# EAGLE library part CS8406_SW (library cirrus)
DIGITAL AUDIO INTERFACE TRANSMITTER (Software Mode) 192 kHz, AES3, S/PDIF-compatible Transmitter
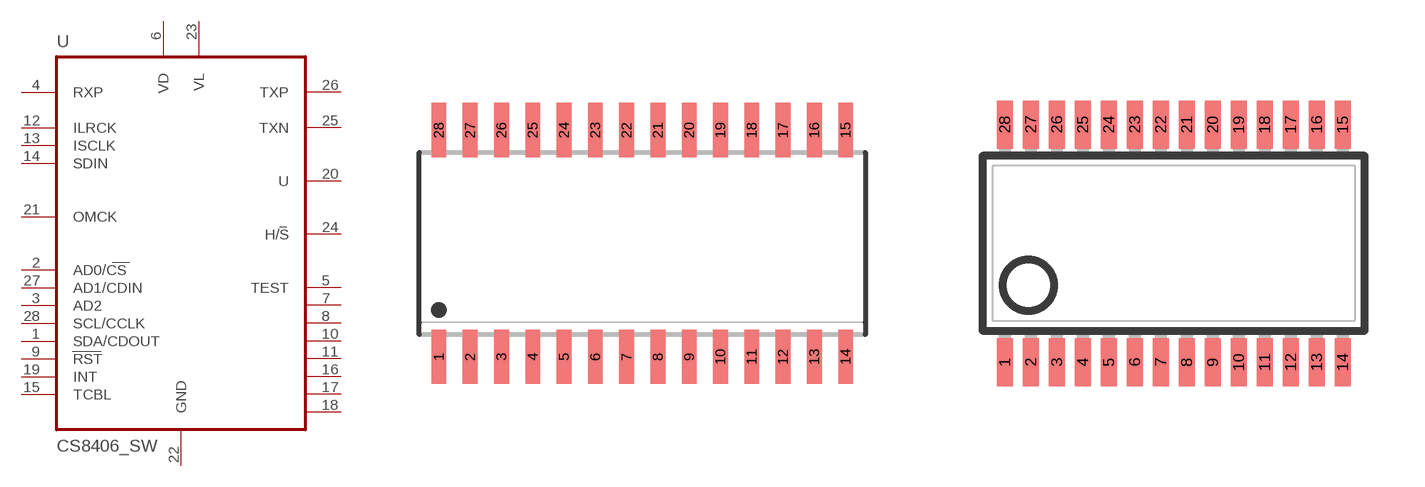
[diagram p1: symbol with the pads of SO28W; footprints SO28W, TSSOP28L]

Designator prefix U

## CS8406_SW-CSS  [SO28W]
1  SDA/CDOUT
2  AD0/CS  in
3  AD2  in
4  RXP  in
5  TEST
6  VD  pwr
7  TEST
8  TEST
9  RST  in
10  TEST
11  TEST
12  ILRCK
13  ISCLK
14  SDIN  in
15  TCBL
16  TEST
17  TEST
18  TEST
19  INT  out
20  U  in
21  OMCK  in
22  GND  pwr
23  VL  pwr
24  H/S  in
25  TXN  out
26  TXP  out
27  AD1/CDIN  in
28  SCL/CCLK  in

## CS8406_SW-CZZ  [TSSOP28L]
Pads as for SO28W

## Footprint SO28W (pad centres in mm)
SMALL OUTLINE INTEGRATED CIRCUIT wide body 7.5 mm/JEDEC MO-119AB
smd 0.6 x 2.2: 1 -8.255,-4.6; 2 -6.985,-4.6; 3 -5.715,-4.6; 4 -4.445,-4.6; 5 -3.175,-4.6; 6 -1.905,-4.6; 7 -0.635,-4.6; 8 0.635,-4.6; 9 1.905,-4.6; 10 3.175,-4.6; 11 4.445,-4.6; 12 5.715,-4.6; 13 6.985,-4.6; 14 8.255,-4.6; 15 8.255,4.6; 16 6.985,4.6; 17 5.715,4.6; 18 4.445,4.6; 19 3.175,4.6; 20 1.905,4.6; 21 0.635,4.6; 22 -0.635,4.6; 23 -1.905,4.6; 24 -3.175,4.6; 25 -4.445,4.6; 26 -5.715,4.6; 27 -6.985,4.6; 28 -8.255,4.6

## Footprint TSSOP28L (pad centres in mm)
Small Shrink Outline Package JEDEC MO-153
smd 0.4 x 1.2: 1 -3.575,-2.97; 2 -2.925,-2.97; 3 -2.275,-2.97; 4 -1.625,-2.97; 5 -0.975,-2.97; 6 -0.325,-2.97; 7 0.325,-2.97; 8 0.975,-2.97; 9 1.625,-2.97; 10 2.275,-2.97; 11 2.925,-2.97; 12 3.575,-2.97; 13 4.225,-2.97; 14 4.875,-2.97; 15 4.875,2.97; 16 4.225,2.97; 17 3.575,2.97; 18 2.925,2.97; 19 2.275,2.97; 20 1.625,2.97; 21 0.975,2.97; 22 0.325,2.97; 23 -0.325,2.97; 24 -0.975,2.97; 25 -1.625,2.97; 26 -2.275,2.97; 27 -2.925,2.97; 28 -3.575,2.97